# EAGLE library part AFFICHEUR_LCD_1 (library Eagle_Lib_IUT)
Afficheur LCD LM-16251
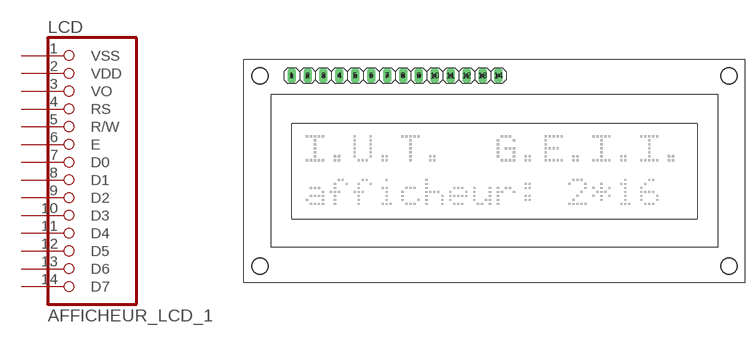
[diagram p7: symbol with the pads of AFFICHEUR_LCD_2X16; footprint AFFICHEUR_LCD_2X16]

Designator prefix LCD

## AFFICHEUR_LCD_1  [AFFICHEUR_LCD_2X16]
1  VSS  pas
2  VDD  pas
3  VO  pas
4  RS  pas
5  R/W  pas
6  E  pas
7  D0  pas
8  D1  pas
9  D2  pas
10  D3  pas
11  D4  pas
12  D5  pas
13  D6  pas
14  D7  pas

## Footprint AFFICHEUR_LCD_2X16 (pad centres in mm)
Afficheur LCD 2 x 16 caractères brochage en ligne SIL_14
drill 0.813 long: 1 -31.75,15.24; 2 -29.21,15.24; 3 -26.67,15.24; 4 -24.13,15.24; 5 -21.59,15.24; 6 -19.05,15.24; 7 -16.51,15.24; 8 -13.97,15.24; 9 -11.43,15.24; 10 -8.89,15.24; 11 -6.35,15.24; 12 -3.81,15.24; 13 -1.27,15.24; 14 1.27,15.24